# Altium schematic symbol library FPGA.SchLib: 1 symbol
Pins are listed as number, name and electrical type; pins without a type are passive.

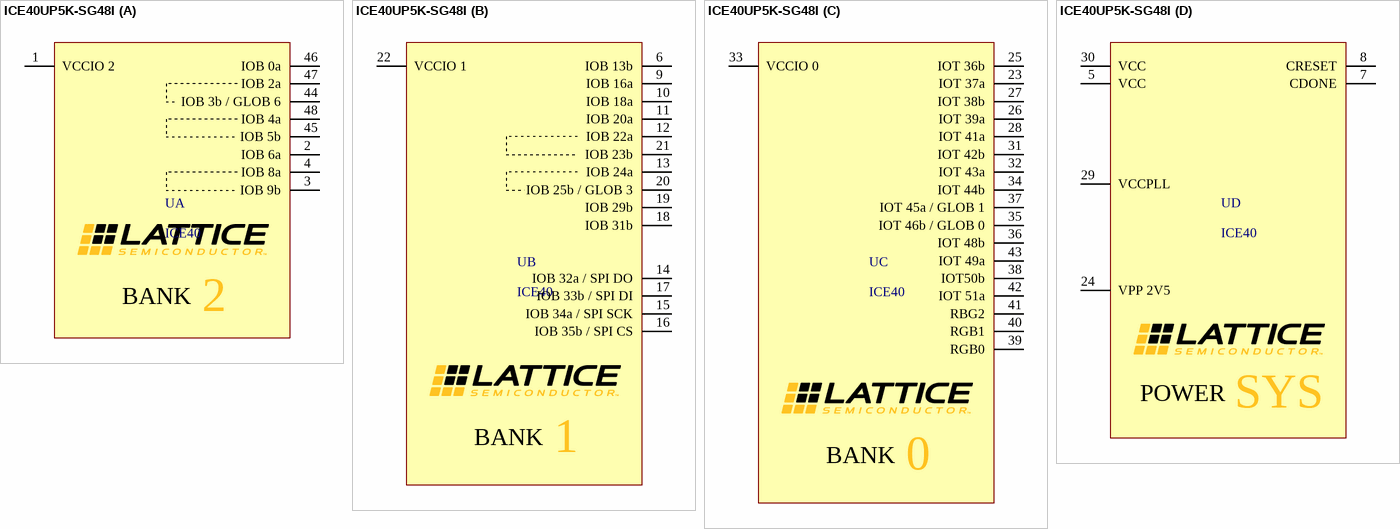
[diagram p0: symbol ICE40UP5K-SG48I]

## ICE40UP5K-SG48I
designator U, comment ICE40
ICE40-UP5K QFN
footprint ICE40UP5K-SG48I (QFN, 48-Leads, Body 7.00x7.00mm, Pitch 0.50mm, Thermal Pad 5.40x5.40mm, IPC Medium Density)
part A pins: 1 VCCIO 2, 2 IOB 6a, 3 IOB 9b, 4 IOB 8a, 44 IOB 3b / GLOB 6, 45 IOB 5b, 46 IOB 0a, 47 IOB 2a, 48 IOB 4a
part B pins: 6 IOB 13b, 9 IOB 16a, 10 IOB 18a, 11 IOB 20a, 12 IOB 22a, 13 IOB 24a, 14 IOB 32a / SPI DO, 15 IOB 34a / SPI SCK, 16 IOB 35b / SPI CS, 17 IOB 33b / SPI DI, 18 IOB 31b, 19 IOB 29b, 20 IOB 25b / GLOB 3, 21 IOB 23b, 22 VCCIO 1
part C pins: 23 IOT 37a, 25 IOT 36b, 26 IOT 39a, 27 IOT 38b, 28 IOT 41a, 31 IOT 42b, 32 IOT 43a, 33 VCCIO 0, 34 IOT 44b, 35 IOT 46b / GLOB 0, 36 IOT 48b, 37 IOT 45a / GLOB 1, 38 IOT50b, 39 RGB0, 40 RGB1, 41 RBG2, 42 IOT 51a, 43 IOT 49a
part D pins: 5 VCC, 7 CDONE, 8 CRESET, 24 VPP 2V5, 29 VCCPLL, 30 VCC
part A text: BANK
part B text: BANK
part C text: BANK; 0
part D text: POWER; SYS